# Altium footprint library PcbLib1.PcbLib: 6 footprints
Each footprint in its own frame and in the unit in brackets; x right, y up, seen from the top. Pads: shape width x height; smd on the part's side, far side on the other; paste and mask are expansions set on the pad; w line width, h text height; cw(c..) or ccw(c..) is an arc to the next point about the centre after c.
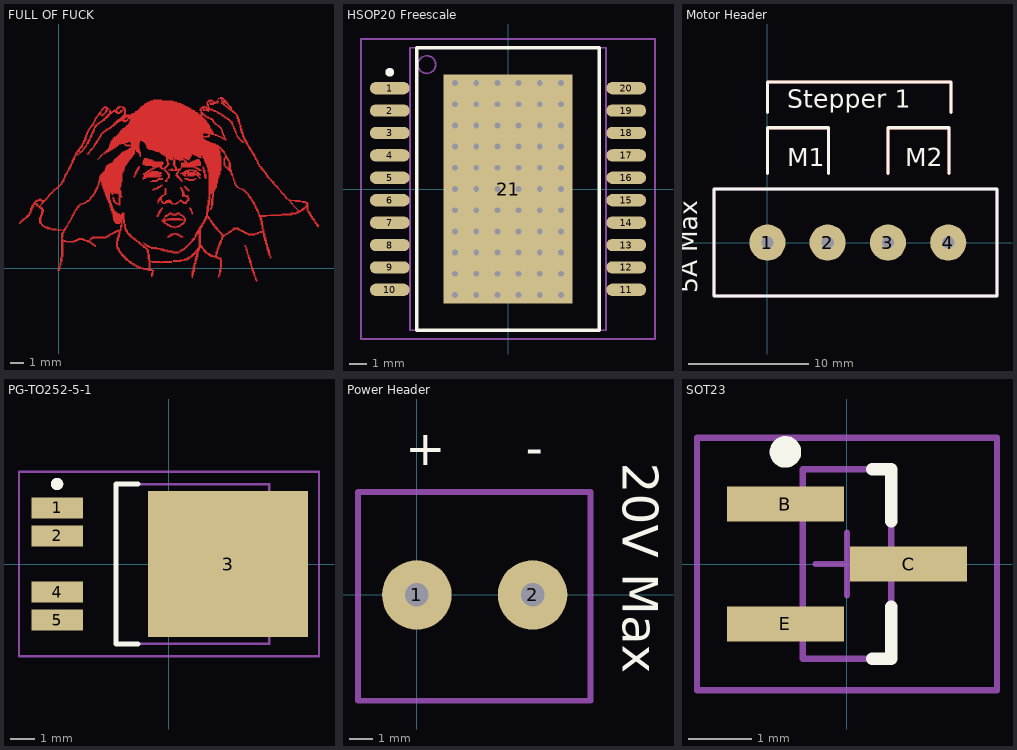
[diagram p0: the footprints below, top view; thin cyan lines are the x and y axes]

## FULL OF FUCK [mm] "MY BRAIN IS"
Top Layer:
  drawing of 1828 lines, arcs and shapes, not listed

## HSOP20 Freescale [mm] "SOP, 20-Leads, Body 16.0x11.1mm (max), Pitch 1.27mm, IPC Low Density"
height 3.4
pads (21):
  oval 2.25x0.7 smd: 1(-6.7,5.715) 2(-6.7,4.445) 3(-6.7,3.175) 4(-6.7,1.905) 5(-6.7,0.635) 6(-6.7,-0.635) 7(-6.7,-1.905) 8(-6.7,-3.175) 9(-6.7,-4.445) 10(-6.7,-5.715) 11(6.7,-5.715) 12(6.7,-4.445) 13(6.7,-3.175) 14(6.7,-1.905) 15(6.7,-0.635) 16(6.7,0.635) 17(6.7,1.905) 18(6.7,3.175) 19(6.7,4.445) 20(6.7,5.715)
  rect 7.3x13 smd: 21(0,0)
via -3,6 diameter 0.66 hole 0.33
via -1.8,6 diameter 0.66 hole 0.33
via -0.6,6 diameter 0.66 hole 0.33
via 0.6,6 diameter 0.66 hole 0.33
via 1.8,6 diameter 0.66 hole 0.33
via 3,6 diameter 0.66 hole 0.33
via -3,4.8 diameter 0.66 hole 0.33
via -1.8,4.8 diameter 0.66 hole 0.33
via -0.6,4.8 diameter 0.66 hole 0.33
via 0.6,4.8 diameter 0.66 hole 0.33
via 1.8,4.8 diameter 0.66 hole 0.33
via 3,4.8 diameter 0.66 hole 0.33
via -3,3.6 diameter 0.66 hole 0.33
via -1.8,3.6 diameter 0.66 hole 0.33
via -0.6,3.6 diameter 0.66 hole 0.33
via 0.6,3.6 diameter 0.66 hole 0.33
via 1.8,3.6 diameter 0.66 hole 0.33
via 3,3.6 diameter 0.66 hole 0.33
via -3,2.4 diameter 0.66 hole 0.33
via -1.8,2.4 diameter 0.66 hole 0.33
via -0.6,2.4 diameter 0.66 hole 0.33
via 0.6,2.4 diameter 0.66 hole 0.33
via 1.8,2.4 diameter 0.66 hole 0.33
via 3,2.4 diameter 0.66 hole 0.33
via -3,1.2 diameter 0.66 hole 0.33
via -1.8,1.2 diameter 0.66 hole 0.33
via -0.6,1.2 diameter 0.66 hole 0.33
via 0.6,1.2 diameter 0.66 hole 0.33
via 1.8,1.2 diameter 0.66 hole 0.33
via 3,1.2 diameter 0.66 hole 0.33
via -3,0 diameter 0.66 hole 0.33
via -1.8,0 diameter 0.66 hole 0.33
via -0.6,0 diameter 0.66 hole 0.33
via 0.6,0 diameter 0.66 hole 0.33
via 1.8,0 diameter 0.66 hole 0.33
via 3,0 diameter 0.66 hole 0.33
via -3,-1.2 diameter 0.66 hole 0.33
via -1.8,-1.2 diameter 0.66 hole 0.33
via -0.6,-1.2 diameter 0.66 hole 0.33
via 0.6,-1.2 diameter 0.66 hole 0.33
via 1.8,-1.2 diameter 0.66 hole 0.33
via 3,-1.2 diameter 0.66 hole 0.33
via -3,-2.4 diameter 0.66 hole 0.33
via -1.8,-2.4 diameter 0.66 hole 0.33
via -0.6,-2.4 diameter 0.66 hole 0.33
via 0.6,-2.4 diameter 0.66 hole 0.33
via 1.8,-2.4 diameter 0.66 hole 0.33
via 3,-2.4 diameter 0.66 hole 0.33
via -3,-3.6 diameter 0.66 hole 0.33
via -1.8,-3.6 diameter 0.66 hole 0.33
via -0.6,-3.6 diameter 0.66 hole 0.33
via 0.6,-3.6 diameter 0.66 hole 0.33
via 1.8,-3.6 diameter 0.66 hole 0.33
via 3,-3.6 diameter 0.66 hole 0.33
via -3,-4.8 diameter 0.66 hole 0.33
via -1.8,-4.8 diameter 0.66 hole 0.33
via -0.6,-4.8 diameter 0.66 hole 0.33
via 0.6,-4.8 diameter 0.66 hole 0.33
via 1.8,-4.8 diameter 0.66 hole 0.33
via 3,-4.8 diameter 0.66 hole 0.33
via -3,-6 diameter 0.66 hole 0.33
via -1.8,-6 diameter 0.66 hole 0.33
via -0.6,-6 diameter 0.66 hole 0.33
via 0.6,-6 diameter 0.66 hole 0.33
via 1.8,-6 diameter 0.66 hole 0.33
via 3,-6 diameter 0.66 hole 0.33
Top Overlay:
  circle w0.25: c-6.7,6.615 r0.125
  lines w0.2: -5.175,-8 -5.175,8 5.175,8 5.175,-8 -5.175,-8
Mechanical 13:
  circle w0.1: c-4.6,7.05 r0.5
  lines w0.1: -5.55,-8 -5.55,8 5.55,8 5.55,-8 -5.55,-8
Mechanical 15:
  lines w0.1: -0.5,0 0.5,0 ; 0,-0.5 0,0.5 ; -8.325,-8.5 -8.325,8.5 8.325,8.5 8.325,-8.5 -8.325,-8.5
3D body: height 3.4, standoff 0.1, extent -5.55,-8 5.55,8

## Motor Header [mm] "Custom header for motor connections"
height 10
pads (4):
  round 3 hole 1.016: 1(0,0) 2(5,0) 3(10,0) 4(15,0)
Top Layer:
  lines w0.254: 0,5.715 0,9.525 5.08,9.525 5.08,5.715 ; 0,10.795 0,13.335 15.24,13.335 15.24,10.795 ; 10,5.715 10,9.525 15.08,9.525 15.08,5.715
  text "Stepper 1" at 1.651,11.176 h1.52
  text "M2" at 11.43,6.35 h1.52
  text "M1" at 1.651,6.35 h1.52
  text "5A Max" at -5.842,-4.191 h1.52
Top Overlay:
  lines w0.25: 0,4.445 19.05,4.445 19.05,-4.445
  lines w0.254: 0,4.445 -4.445,4.445 -4.445,-4.445 0,-4.445 13.335,-4.445 19.05,-4.445 ; 0,5.715 0,9.525 5.08,9.525 5.08,5.715 ; 0,10.795 0,13.335 15.24,13.335 15.24,10.795 ; 10,5.715 10,9.525 15.08,9.525 15.08,5.715
  text "M1" at 1.651,6.35 h1.52
  text "M2" at 11.43,6.35 h1.52
  text "Stepper 1" at 1.651,11.176 h1.52
  text "5A Max" at -5.842,-4.191 h1.52
Mechanical 15:
  lines w0.25: 19.05,-4.445 19.05,4.445
  lines w0.254: 19.05,-4.445 16.637,-4.445 -4.445,-4.445 -4.445,4.445 19.05,4.445
3D body: height 15.2, standoff -3.5, extent 7.512,-4.555 17.512,4.445
3D body: height 15.2, standoff -3.5, extent -2.488,-4.555 7.512,4.445

## PG-TO252-5-1 [mm] "D-PAK, 5-Pads, Body 6.2x6.5mm (max), IPC Low Density"
height 2.38
pads (5):
  rect 2.1x0.85 smd: 1(-4.55,2.28) 2(-4.55,1.14) 4(-4.55,-1.14) 5(-4.55,-2.28)
  rect 6.5x5.95 smd: 3(2.4,0)
Top Overlay:
  circle w0.25: c-4.55,3.255 r0.125
  lines w0.2: -1.25,-3.25 -2.15,-3.25 -2.15,3.25 -1.25,3.25
Mechanical 13:
  lines w0.1: -2.15,-3.25 -2.15,3.25 4.07,3.25 4.07,-3.25 -2.15,-3.25
Mechanical 15:
  lines w0.1: -0.5,0 0.5,0 ; 0,-0.5 0,0.5 ; -6.1,-3.75 -6.1,3.75 6.1,3.75 6.1,-3.75 -6.1,-3.75
3D body: height 2.38, standoff 0.5, extent -2.15,-3.25 4.07,3.25

## Power Header [mm] "Custom header for power in"
height 10
pads (2):
  round 3 hole 1.016: 1(0,0) 2(5,0)
Top Layer:
  text "+" at -0.508,5.588 h1.52
  text "-" at 4.699,5.588 h1.52
  text "20V Max" at 8.89,5.715 h1.52
Top Overlay:
  text "-" at 4.699,5.588 h1.52
  text "+" at -0.508,5.588 h1.52
  text "20V Max" at 8.89,5.715 h1.52
Mechanical 15:
  lines w0.254: -2.54,-4.572 -2.54,4.445 7.493,4.445 7.493,-4.572 -2.54,-4.572
3D body: height 15.2, standoff -3.5, extent -2.488,-4.555 7.512,4.445

## SOT23 [mm] "SOT23, 3-Leads, Body 3.0x2.6mm (max), Pitch 0.95mm, IPC Low Density"
height 1.1
pads (3):
  rect 1.85x0.55 smd: B(-0.975,0.95) C(0.975,0) E(-0.975,-0.95)
Top Overlay:
  circle w0.25: c-0.975,1.775 r0.125
  lines w0.2: 0.4,-1.5 0.7,-1.5 0.7,-0.675 ; 0.4,1.5 0.7,1.5 0.7,0.675
Mechanical 13:
  lines w0.1: -0.7,-1.5 0.7,-1.5 0.7,1.5 -0.7,1.5 -0.7,-1.5
Mechanical 15:
  lines w0.1: -0.5,0 0.5,0 ; 0,-0.5 0,0.5 ; -2.375,-2 2.375,-2 2.375,2 -2.375,2 -2.375,-2
3D body: height 1.1, standoff 0.1, extent -0.7,-1.5 0.7,1.5